# EAGLE library part ELECTROSHRI_ADS124S08IPBSR (library ADS124S08-Dev-Board)
24-Bit, 4kSPS, 12-Ch Delta-Sigma ADC With PGA and VREF for Precision Sensor Measurement 32-TQFP -50 to 125 Check prices <https://pricing.snapeda.com/search/part/ADS124S08IPBSR/?ref=eda>
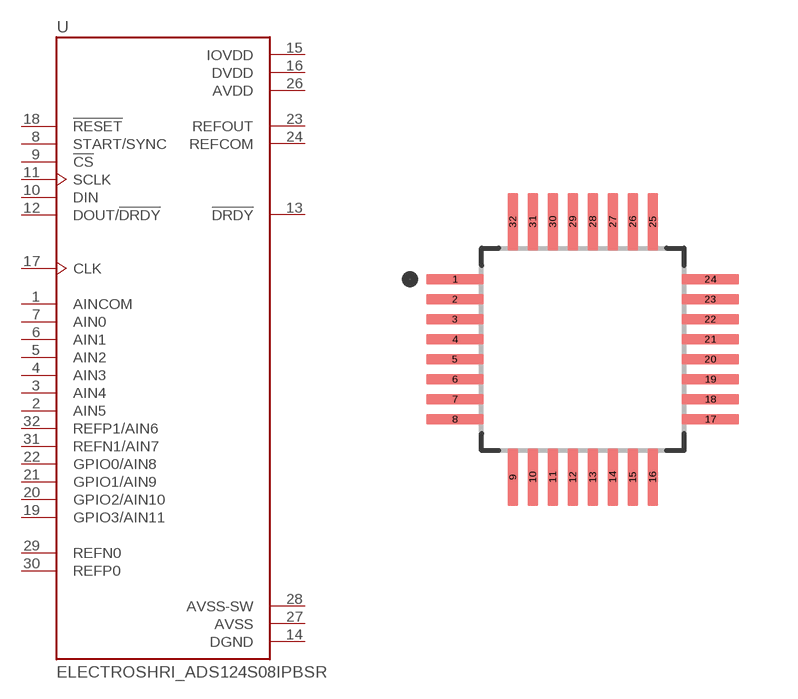
[diagram p1: symbol with the pads of ELECTROSHRI_QFP50P700X700X120-32N; footprint ELECTROSHRI_QFP50P700X700X120-32N]

Designator prefix U

## ELECTROSHRI_ADS124S08IPBSR (AVAILABILITY: Good; DESCRIPTION: 24-bit, 4-kSPS, 12-ch delta-sigma ADC with PGA and voltage reference for sensor measurement 32-TQFP -50 to 125; MF: Texas Instruments; MP: ADS124S08IPBSR; PACKAGE: TQFP-32 Texas Instruments; PRICE: None; PURCHASE-URL: https://pricing.snapeda.com/search/part/ADS124S08IPBSR/?ref=eda)  [ELECTROSHRI_QFP50P700X700X120-32N]
1  AINCOM  in
2  AIN5  in
3  AIN4  in
4  AIN3  in
5  AIN2  in
6  AIN1  in
7  AIN0  in
8  START/SYNC  in
9  !CS  in
10  DIN  in
11  SCLK  in
12  DOUT/!DRDY  out
13  !DRDY  out
14  DGND  pwr
15  IOVDD  pwr
16  DVDD  pwr
17  CLK  in
18  !RESET  in
19  GPIO3/AIN11
20  GPIO2/AIN10
21  GPIO1/AIN9
22  GPIO0/AIN8
23  REFOUT  out
24  REFCOM  out
26  AVDD  pwr
27  AVSS  pwr
28  AVSS-SW  pwr
29  REFN0  in
30  REFP0  in
31  REFN1/AIN7  in
32  REFP1/AIN6  in

## Footprint ELECTROSHRI_QFP50P700X700X120-32N (pad centres in mm)
smd 1.44 x 0.26: 1 -3.195,1.75; 2 -3.195,1.25; 3 -3.195,0.75; 4 -3.195,0.25; 5 -3.195,-0.25; 6 -3.195,-0.75; 7 -3.195,-1.25; 8 -3.195,-1.75; 17 3.195,-1.75; 18 3.195,-1.25; 19 3.195,-0.75; 20 3.195,-0.25; 21 3.195,0.25; 22 3.195,0.75; 23 3.195,1.25; 24 3.195,1.75
smd 0.26 x 1.44: 9 -1.75,-3.195; 10 -1.25,-3.195; 11 -0.75,-3.195; 12 -0.25,-3.195; 13 0.25,-3.195; 14 0.75,-3.195; 15 1.25,-3.195; 16 1.75,-3.195; 25 1.75,3.195; 26 1.25,3.195; 27 0.75,3.195; 28 0.25,3.195; 29 -0.25,3.195; 30 -0.75,3.195; 31 -1.25,3.195; 32 -1.75,3.195